# Altium footprint library PCB - CONNECTOR - PHOENIX - PHOENIX 1990083.PcbLib: 1 footprints
Each footprint in its own frame and in the unit in brackets; x right, y up, seen from the top. Pads: shape width x height; smd on the part's side, far side on the other; paste and mask are expansions set on the pad; w line width, h text height; cw(c..) or ccw(c..) is an arc to the next point about the centre after c.
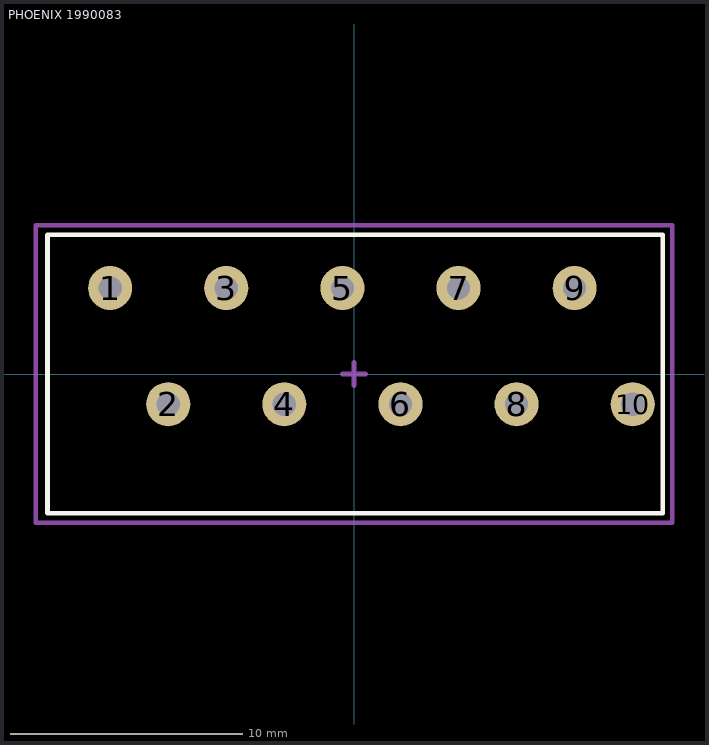
[diagram p0: the footprint, top view; thin cyan lines are the x and y axes]

## PHOENIX 1990083 [mm] "10 Position Wire to Board Terminal Block 45° (135°) Angle with Board 0.098\" (2.50mm) Through Hole"
height 13.1
pads (10):
  round 1.9 hole 1: 1(-10.5,3.7) 2(-8,-1.3) 3(-5.5,3.7) 4(-3,-1.3) 5(-0.5,3.7) 6(2,-1.3) 7(4.5,3.7) 8(7,-1.3) 9(9.5,3.7) 10(12,-1.3)
Top Overlay:
  lines w0.2: -13.2,-6 13.3,-6 13.3,6 -13.2,6 -13.2,-6
Top Assembly:
  lines w0.2: -0.5,0 0.5,0 ; 0,-0.5 0,0.5
Top Courtyard (Mech15):
  lines w0.2: -13.7,-6.4 13.7,-6.4 13.7,6.4 -13.7,6.4 -13.7,-6.4
3D body "Phoenix Contact 1990083.step": height 13.1, standoff -3.5, extent -13.25,-6 13.25,6